# EAGLE library part RFM12B (library SteveMarple)
RFM12B radio module by HopeRF
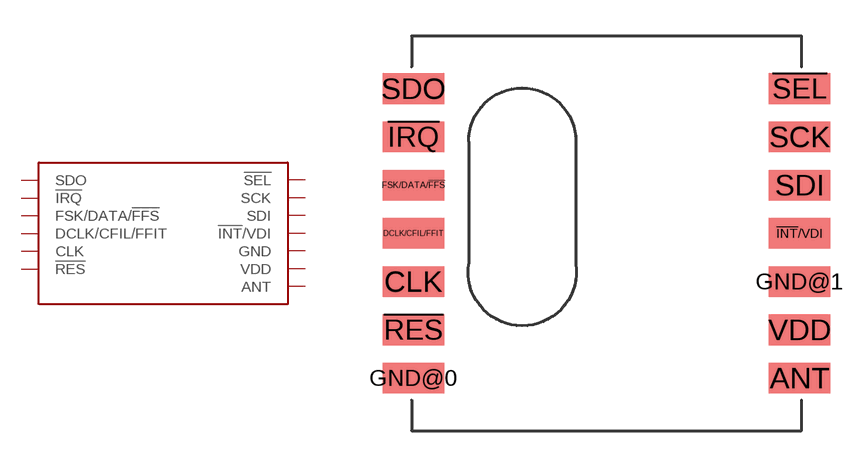
[diagram p16: symbol with the pads of RFM12B; footprint RFM12B]

Designator prefix RF

## RFM12BSMD  [RFM12B]
!INT!/VDI  !INT!/VDI
!IRQ  !IRQ  out
!RES  !RES
!SEL  !SEL  in
ANT  ANT  pas
CLK  CLK  out
DCLK/CFIL/FFIT  DCLK/CFIL/FFIT
FSK/DATA/!FFS  FSK/DATA/!FFS
GND@0  GND  pwr
GND@1  GND  pwr
SCK  SCK  in
SDI  SDI  in
SDO  SDO  out
VDD  VDD  pwr

## Footprint RFM12B (pad centres in mm)
RFM12B radio module by HopeRF Footprint adapted from Jeelabs library part.
smd 2.54 x 1.27: !INT!/VDI 8,0; !IRQ -8,4; !RES -8,-4; !SEL 8,6; ANT 8,-6; CLK -8,-2; DCLK/CFIL/FFIT -8,0; FSK/DATA/!FFS -8,2; GND@0 -8,-6; GND@1 8,-2; SCK 8,4; SDI 8,2; SDO -8,6; VDD 8,-4